# Altium footprint library PICOCORE-S3.PcbLib: 6 footprints
Each footprint in its own frame and in the unit in brackets; x right, y up, seen from the top. Pads: shape width x height; smd on the part's side, far side on the other; paste and mask are expansions set on the pad; w line width, h text height; cw(c..) or ccw(c..) is an arc to the next point about the centre after c.
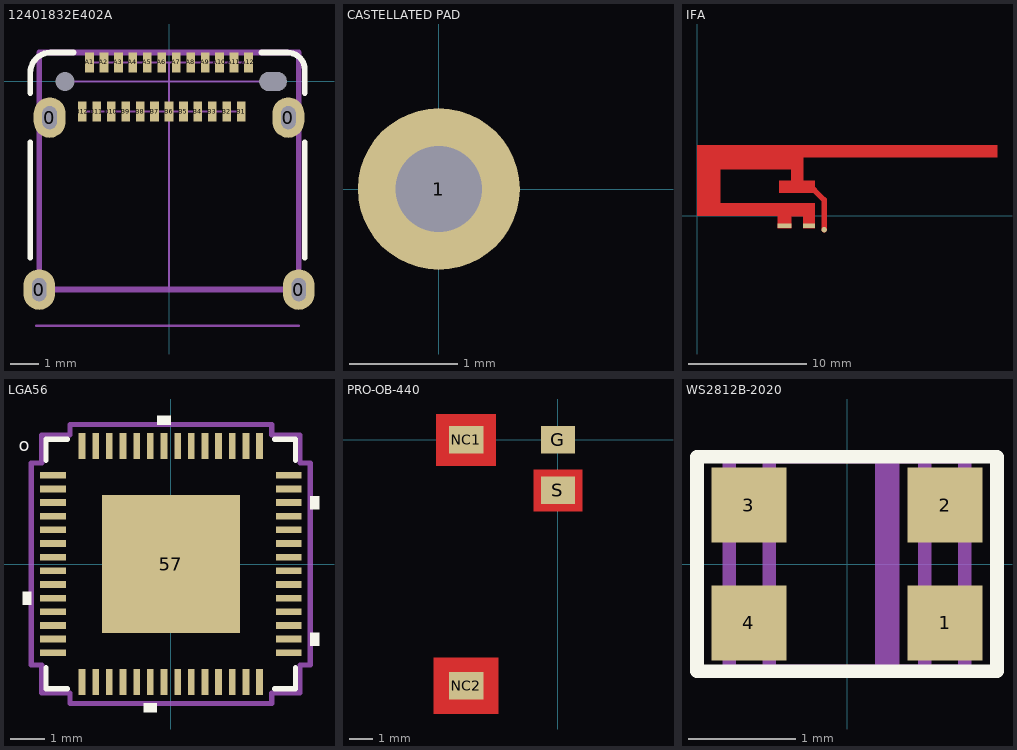
[diagram p0: the footprints below, top view; thin cyan lines are the x and y axes]

## 12401832E402A [mm] "CONN RCP USB3.1 TYPEC 24P SMD RA"
height 3.28
pads (30):
  oval 1.1x1.4 hole 0.5 slot 0.8 at 90 deg mask+0: 0(-4.49,-7.2) 0(-4.13,-1.25) 0(4.13,-1.25) 0(4.49,-7.2)
  rect 0.3x0.7 smd mask+0: A1(-2.75,0.66) A2(-2.25,0.66) A3(-1.75,0.66) A4(-1.25,0.66) A5(-0.75,0.66) A6(-0.25,0.66) A7(0.25,0.66) A8(0.75,0.66) A9(1.25,0.66) A10(1.75,0.66) A11(2.25,0.66) A12(2.75,0.66) B1(2.5,-1.04) B2(2,-1.04) B3(1.5,-1.04) B4(1,-1.04) B5(0.5,-1.04) B6(0,-1.04) B7(-0.5,-1.04) B8(-1,-1.04) B9(-1.5,-1.04) B10(-2,-1.04) B11(-2.5,-1.04) B12(-3,-1.04)
  round 0 hole 0.65 mask+0: ""(-3.6,0)
  round 0 hole 0.65 slot 0.95 at 0 deg mask+0: ""(3.6,0)
Top Overlay:
  lines w0.2: -4.8,-6.1 -4.8,-2.1 ; -4.8,-0.4 -4.8,0.3 cw(c-4.1,0.3) -4.1,1 -3.3,1 ; 3.2,1 4.1,1 cw(c4.1,0.4) 4.7,0.4 4.7,-0.4 ; 4.7,-6.1 4.7,-2.1
Top Assembly:
  lines w0.076: -4.6,-8.45 4.5,-8.45 ; -3.6,0 3.6,0 ; -3,-1.04 2.5,-1.04 ; -2.75,0.66 2.75,0.66 ; 0,-7.2 0,0.66
  lines w0.2: -4.49,-7.2 -4.49,1 4.49,1 4.49,-7.2 -4.49,-7.2
  text "PCB EDGE" at -2.433,-8.317 h0.64
  text ".Designator" at -3.174,-4.512 h0.64
3D body "C12401849_X1.stp": height 3.3, standoff -0.88, extent -4.65,-9.61 4.55,0.88

## CASTELLATED PAD [mm]
pads (1):
  round 1.5 hole 0.8 mask+0.051: 1(0,0)
Multi-Layer:
  region: 0,-0.75 2.032,-0.75 2.032,0.75 0,0.75 0.074,0.746 0.218,0.718 0.354,0.661 0.476,0.58 0.58,0.476 0.661,0.354 0.718,0.218 0.746,0.074 0.75,0 0.746,-0.074 0.718,-0.218 0.661,-0.354 0.58,-0.476 0.476,-0.58 0.354,-0.661 0.218,-0.718 0.074,-0.746

## IFA [mil]
pads (3):
  rect 45.28x16 smd mask+0: G1(291.64,-34)
  rect 39.37x16 smd mask+0: G2(373.32,-34)
  round 18 smd mask+0: S(424,-47)
Top Layer:
  region: 353.63,-42 353.63,-2.63 314.26,-2.63 314.26,-42 269,-42 269,-1 1,-1 0,0 0,234 1000,234 1000,194.22 353.63,194.22 353.63,115.48 393,115.48 393,76.11 274.89,76.11 274.89,115.48 314.26,115.48 314.26,154.85 78.04,154.85 78.04,42 393,42 393,-42
  lines w18: 390.39,85.87 424,52.26 424,-47

## LGA56 [mm]
pads (57):
  rect 0.755x0.199 smd paste+0 mask+0: 1(-3.452,2.6) 2(-3.452,2.2) 3(-3.452,1.8) 4(-3.452,1.4) 5(-3.452,1) 6(-3.452,0.6) 7(-3.452,0.2) 8(-3.452,-0.2) 9(-3.452,-0.6) 10(-3.452,-1) 11(-3.452,-1.4) 12(-3.452,-1.8) 13(-3.452,-2.2) 14(-3.452,-2.6) 29(3.452,-2.6) 30(3.452,-2.2) 31(3.452,-1.8) 32(3.452,-1.4) 33(3.452,-1) 34(3.452,-0.6) 35(3.452,-0.2) 36(3.452,0.2) 37(3.452,0.6) 38(3.452,1) 39(3.452,1.4) 40(3.452,1.8) 41(3.452,2.2) 42(3.452,2.6)
  rect 0.199x0.755 smd paste+0 mask+0: 15(-2.6,-3.452) 16(-2.2,-3.452) 17(-1.8,-3.452) 18(-1.4,-3.452) 19(-1,-3.452) 20(-0.6,-3.452) 21(-0.2,-3.452) 22(0.2,-3.452) 23(0.6,-3.452) 24(1,-3.452) 25(1.4,-3.452) 26(1.8,-3.452) 27(2.2,-3.452) 28(2.6,-3.452) 43(2.6,3.452) 44(2.2,3.452) 45(1.8,3.452) 46(1.4,3.452) 47(1,3.452) 48(0.6,3.452) 49(0.2,3.452) 50(-0.2,3.452) 51(-0.6,3.452) 52(-1,3.452) 53(-1.4,3.452) 54(-1.8,3.452) 55(-2.2,3.452) 56(-2.6,3.452)
  rect 4.039x4.039 smd paste-2.019 mask+0: 57(0,0)
Top Overlay:
  region: -0.009,4.084 -0.39,4.084 -0.39,4.338 -0.009,4.338
  region: 4.084,1.99 4.338,1.99 4.338,1.609 4.084,1.609
  region: 4.084,-2.01 4.338,-2.01 4.338,-2.391 4.084,-2.391
  region: -0.409,-4.084 -0.79,-4.084 -0.79,-4.338 -0.409,-4.338
  region: -4.084,-0.81 -4.338,-0.81 -4.338,-1.191 -4.084,-1.191
  lines w0.152: -3.652,-3.032 -3.652,-3.652 -3.032,-3.652 ; -3.652,3.032 -3.652,3.652 -3.032,3.652 ; 3.032,-3.652 3.652,-3.652 3.652,-3.032 ; 3.032,3.652 3.652,3.652 3.652,3.032
  text "o" at -4.445,3.302 h0.38
Top Paste:
  region: 1.919,-0.773 0.773,-0.773 0.773,-1.919 1.919,-1.919
  region: 1.919,0.573 0.773,0.573 0.773,-0.573 1.919,-0.573
  region: 1.919,1.919 0.773,1.919 0.773,0.773 1.919,0.773
  region: 0.573,-0.773 -0.573,-0.773 -0.573,-1.919 0.573,-1.919
  region: 0.573,0.573 -0.573,0.573 -0.573,-0.573 0.573,-0.573
  region: 0.573,1.919 -0.573,1.919 -0.573,0.773 0.573,0.773
  region: -0.773,-0.773 -1.919,-0.773 -1.919,-1.919 -0.773,-1.919
  region: -0.773,0.573 -1.919,0.573 -1.919,-0.573 -0.773,-0.573
  region: -0.773,1.919 -1.919,1.919 -1.919,0.773 -0.773,0.773
Top Assembly:
  lines w0.152: -4.084,-2.954 -3.779,-2.954 -3.779,-3.779 -2.954,-3.779 -2.954,-4.084 2.954,-4.084 2.954,-3.779 3.779,-3.779 3.779,-2.954 4.084,-2.954 4.084,2.954 3.779,2.954 3.779,3.779 2.954,3.779 2.954,4.084 -2.954,4.084 -2.954,3.779 -3.779,3.779 -3.779,2.954 -4.084,2.954 -4.084,-2.954
  text "o" at -3.302,3.048 h0.38
3D body "QFN56_7X7_EXP.step": height 0.89, standoff 0, extent -3.525,-3.525 3.525,3.525

## PRO-OB-440 [mm]
pads (4):
  rect 1.5x1.2 smd mask+0.051: G(0,0) NC1(-4,0) NC2(-4,-10.7) S(0,-2.2)
Top Layer:
  pour cut-out: -5.4,-11.925 -5.4,-9.475 -2.6,-9.475 -2.6,-11.925
  pour cut-out: -5.3,-1.125 -5.3,1.125 -2.7,1.125 -2.7,-1.125
  pour cut-out: -1.05,-1.3 -1.05,-3.1 1.05,-3.1 1.05,-1.3
3D body "PRO-OB-440.STEP": height 3.51, standoff -0.01, extent -4.594,-11.066 0.635,2.684

## WS2812B-2020 [mm]
pads (4):
  rect 0.7x0.7 smd mask+0: 1(0.915,-0.55) 2(0.915,0.55) 3(-0.915,0.55) 4(-0.915,-0.55)
Top Overlay:
  lines w0.127: -1.4,-1 1.4,-1 1.4,1 -1.4,1 -1.4,-1
Top Assembly:
  lines w0.127: 1.1,-1 -1.1,-1 -1.1,1 1.1,1 ; 1.1,-1 1.1,1 ; 1.1,-1 0.429,-1 0.429,-0.9 0.429,1 1.1,1 ; 1.1,-1 0.326,-1 0.326,1 1.1,1
Top 3D Body:
  lines w0.127: -0.97,-0.758 -1.1,-0.758 -1.1,-1 1.1,-1 1.1,-0.758 0.97,-0.758 ; -0.97,-0.373 -1.1,-0.373 -1.1,0.373 -0.97,0.373 ; -0.953,-0.758 ccw(c-0.953,-0.566) -0.761,-0.566 ccw(c-0.953,-0.566) -0.953,-0.373 ; -0.953,0.373 ccw(c-0.953,0.566) -0.761,0.566 ccw(c-0.953,0.566) -0.953,0.758 -0.97,0.758 -1.1,0.758 -1.1,1 1.1,1 1.1,0.758 0.97,0.758 ; 0.953,-0.758 cw(c0.953,-0.566) 0.761,-0.566 cw(c0.953,-0.566) 0.953,-0.373 ; 0.953,0.373 cw(c0.953,0.566) 0.761,0.566 cw(c0.953,0.566) 0.953,0.758 ; 0.97,-0.373 1.1,-0.373 1.1,0.373 0.97,0.373 ; -0.725,-1 -0.725,1 0.725,1 0.725,-1 -0.725,-1
3D body: height 0.84, standoff 0.28, extent -0.725,-1 0.725,1
3D body: height 0.28, standoff 0, extent -1.1,-1 1.1,1